# Altium schematic symbol library aplus.SCHLIB: 2 symbols
Pins are listed as number, name and electrical type; pins without a type are passive.

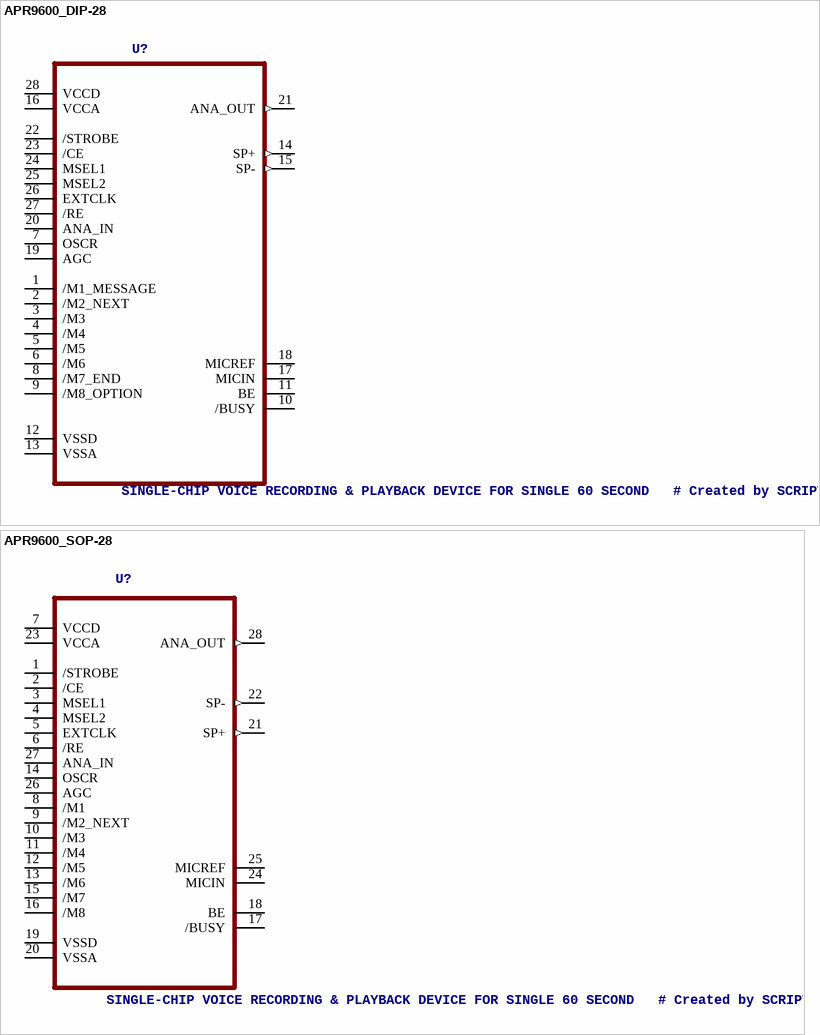
[diagram p0: symbols APR9600_DIP-28 to APR9600_SOP-28]

## APR9600_DIP-28
designator U?, comment SINGLE-CHIP VOICE RECORDING & PLAYBACK DEVICE FOR SINGLE 60 SECOND   # Created by SCRIPT exported from Ultra Librarian Gold 5.3.88 Copyright © 1999-2010 # Tanvir Mohammed, Premier Farnell 2013-04-24 alf@cadsoft.de
MPN: APR9600_DIP-28; OC_FARNELL: unknown; OC_NEWARK: unknown; PACKAGE: DIP-28; SUPPLIER: APLUS INTEGRATED CIRCUITS INC
footprint DIP254P1525X550-28P
pins: 1 /M1_MESSAGE, 2 /M2_NEXT, 3 /M3, 4 /M4, 5 /M5, 6 /M6, 7 OSCR, 8 /M7_END, 9 /M8_OPTION, 10 /BUSY, 11 BE, 12 VSSD, 13 VSSA, 14 SP+ (out), 15 SP- (out), 16 VCCA (power), 17 MICIN, 18 MICREF, 19 AGC, 20 ANA_IN, 21 ANA_OUT (out), 22 /STROBE, 23 /CE, 24 MSEL1, 25 MSEL2, 26 EXTCLK, 27 /RE, 28 VCCD (power)

## APR9600_SOP-28
designator U?, comment SINGLE-CHIP VOICE RECORDING & PLAYBACK DEVICE FOR SINGLE 60 SECOND   # Created by SCRIPT exported from Ultra Librarian Gold 5.3.88 Copyright © 1999-2010 # Tanvir Mohammed, Premier Farnell 2013-04-24 alf@cadsoft.de
MPN: APR9600_SOP-28; OC_FARNELL: unknown; OC_NEWARK: unknown; PACKAGE: SOP-28; SUPPLIER: APLUS INTEGRATED CIRCUITS INC
footprint SOP50P1030X264-28N
pins: 1 /STROBE, 2 /CE, 3 MSEL1, 4 MSEL2, 5 EXTCLK, 6 /RE, 7 VCCD (power), 8 /M1, 9 /M2_NEXT, 10 /M3, 11 /M4, 12 /M5, 13 /M6, 14 OSCR, 15 /M7, 16 /M8, 17 /BUSY, 18 BE, 19 VSSD, 20 VSSA, 21 SP+ (out), 22 SP- (out), 23 VCCA (power), 24 MICIN, 25 MICREF, 26 AGC, 27 ANA_IN, 28 ANA_OUT (out)